# Altium footprint library 60W-PD.PcbLib: 70 footprints (part 3 of 5)
Each footprint in its own frame and in the unit in brackets; x right, y up, seen from the top. Pads: shape width x height; smd on the part's side, far side on the other; paste and mask are expansions set on the pad; w line width, h text height; cw(c..) or ccw(c..) is an arc to the next point about the centre after c.
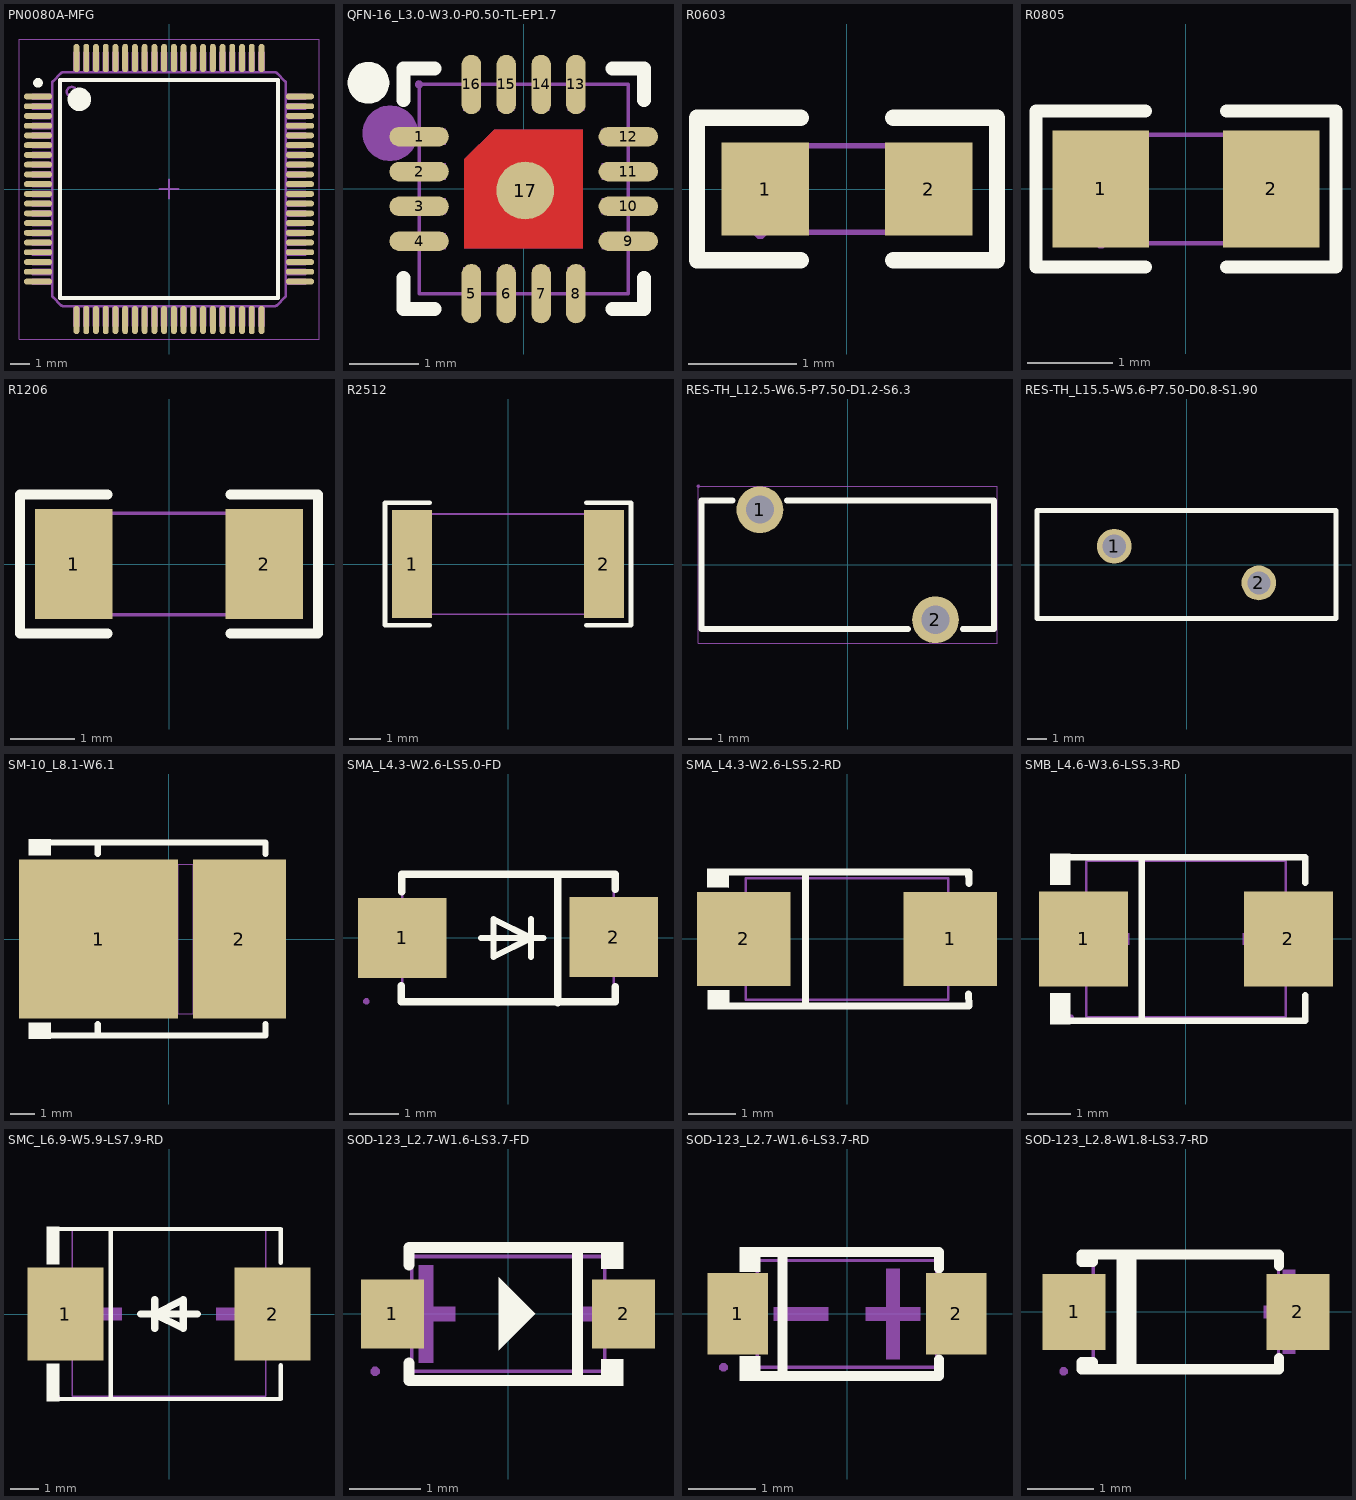
[diagram p2: the footprints below, top view; thin cyan lines are the x and y axes]

## PN0080A-MFG [mm]
pads (80):
  oval 1.45x0.3 smd: 1(-6.725,4.75) 2(-6.725,4.25) 3(-6.725,3.75) 4(-6.725,3.25) 5(-6.725,2.75) 6(-6.725,2.25) 7(-6.725,1.75) 8(-6.725,1.25) 9(-6.725,0.75) 10(-6.725,0.25) 11(-6.725,-0.25) 12(-6.725,-0.75) 13(-6.725,-1.25) 14(-6.725,-1.75) 15(-6.725,-2.25) 16(-6.725,-2.75) 17(-6.725,-3.25) 18(-6.725,-3.75) 19(-6.725,-4.25) 20(-6.725,-4.75) 41(6.725,-4.75) 42(6.725,-4.25) 43(6.725,-3.75) 44(6.725,-3.25) 45(6.725,-2.75) 46(6.725,-2.25) 47(6.725,-1.75) 48(6.725,-1.25) 49(6.725,-0.75) 50(6.725,-0.25) 51(6.725,0.25) 52(6.725,0.75) 53(6.725,1.25) 54(6.725,1.75) 55(6.725,2.25) 56(6.725,2.75) 57(6.725,3.25) 58(6.725,3.75) 59(6.725,4.25) 60(6.725,4.75)
  oval 0.3x1.45 smd: 21(-4.75,-6.725) 22(-4.25,-6.725) 23(-3.75,-6.725) 24(-3.25,-6.725) 25(-2.75,-6.725) 26(-2.25,-6.725) 27(-1.75,-6.725) 28(-1.25,-6.725) 29(-0.75,-6.725) 30(-0.25,-6.725) 31(0.25,-6.725) 32(0.75,-6.725) 33(1.25,-6.725) 34(1.75,-6.725) 35(2.25,-6.725) 36(2.75,-6.725) 37(3.25,-6.725) 38(3.75,-6.725) 39(4.25,-6.725) 40(4.75,-6.725) 61(4.75,6.725) 62(4.25,6.725) 63(3.75,6.725) 64(3.25,6.725) 65(2.75,6.725) 66(2.25,6.725) 67(1.75,6.725) 68(1.25,6.725) 69(0.75,6.725) 70(0.25,6.725) 71(-0.25,6.725) 72(-0.75,6.725) 73(-1.25,6.725) 74(-1.75,6.725) 75(-2.25,6.725) 76(-2.75,6.725) 77(-3.25,6.725) 78(-3.75,6.725) 79(-4.25,6.725) 80(-4.75,6.725)
Top Overlay:
  circle w0.25: c-6.725,5.45 r0.125
  circle w0.6: c-4.6,4.6 r0.3
  lines w0.2: -5.6,-5.6 -5.6,5.6 5.6,5.6 5.6,-5.6 -5.6,-5.6
Mechanical 5:
  drawing of 978 lines, arcs and shapes, not listed
  text ".Designator" at -1.825,-0.5 h1.02
Mechanical 15:
  lines w0.05: -7.7,-7.7 -7.7,7.7 7.7,7.7 7.7,-7.7 -7.7,-7.7
  lines w0.1: -0.5,0 0.5,0 ; 0,-0.5 0,0.5
3D body "IC_TMS320F280025CPNSR_LQFP80.STEP": height 0.25, standoff 0, extent -7.5,-7.5 7.5,7.5

## QFN-16_L3.0-W3.0-P0.50-TL-EP1.7 [mil]
pads (17):
  oval 33.5x11 smd paste-3937 mask+2: 1(-59,29.5) 2(-59,9.8) 3(-59,-9.8) 4(-59,-29.5) 9(59.1,-29.5) 10(59.1,-9.8) 11(59.1,9.8) 12(59.1,29.5)
  oval 11x33.5 smd paste-3937 mask+2: 5(-29.5,-59.1) 6(-9.8,-59.1) 7(9.9,-59.1) 8(29.5,-59.1) 13(29.5,59) 14(9.9,59) 15(-9.8,59) 16(-29.5,59)
  round 32.6 smd: 17(0.9,-0.9)
Top Layer:
  region: 33.5,33.5 33.5,-33.5 -33.5,-33.5 -33.5,16.7 -16.7,33.5
Top Overlay:
  lines w7.9: -67.9,-50.2 -67.9,-67.9 -50.2,-67.9 ; -67.9,50.2 -67.9,67.9 -50.2,67.9 ; 50.2,-67.9 67.9,-67.9 67.9,-50.2 ; 50.2,67.9 67.9,67.9 67.9,50.2
  lines w11.8: -81.7,59.9 -82.1,57.9 -83.1,56.1 -84.7,54.8 -86.6,54.1 -88.6,54.1 -90.6,54.8 -92.1,56.2 -93.1,57.9 -93.5,59.9 -93.1,62 -92.1,63.7 -90.6,65.1 -88.6,65.8 -86.6,65.8 -84.7,65.1 -83.1,63.8 -82.1,62 -81.7,60
Top Paste:
  drawing of 17 lines, arcs and shapes, not listed
Mechanical 2:
  lines w15.7: -83.2,31.4 -82.8,29 -81.7,26.8 -80,25.1 -77.8,23.9 -75.4,23.6 -72.9,23.9 -70.7,25.1 -69,26.8 -67.9,29 -67.5,31.4 -67.9,33.9 -69,36.1 -70.7,37.8 -72.9,38.9 -75.4,39.3 -77.8,38.9 -80,37.8 -81.7,36.1 -82.8,33.9 -83.2,31.4
Mechanical 6:
  lines w2: -59,-59.1 59.1,-59.1 59.1,59 -59,59 -59,-59.1
Mechanical 8:
  region: -56.7,59 -57.1,57.8 -58.1,56.9 -59.4,56.7 -60.6,57.3 -61.3,58.4 -61.3,59.7 -60.6,60.8 -59.4,61.4 -58.1,61.2 -57.1,60.3
Mechanical 9:
  region: -34,59 -25,59 -25,44.1 -34,44.1
  region: -14.4,59 -5.3,59 -5.3,44.1 -14.4,44.1
  region: 5.3,59 14.4,59 14.4,44.1 5.3,44.1
  region: 25,59 34.1,59 34.1,44.1 25,44.1
  region: 59.1,34.1 59.1,25 44.1,25 44.1,34.1
  region: 59.1,14.4 59.1,5.3 44.1,5.3 44.1,14.4
  region: 59.1,-5.3 59.1,-14.4 44.1,-14.4 44.1,-5.3
  region: 59.1,-25 59.1,-34.1 44.1,-34.1 44.1,-25
  region: 25,-44.1 34.1,-44.1 34.1,-59.1 25,-59.1
  region: 5.3,-44.1 14.4,-44.1 14.4,-59.1 5.3,-59.1
  region: -14.4,-44.1 -5.3,-44.1 -5.3,-59.1 -14.4,-59.1
  region: -34,-44.1 -25,-44.1 -25,-59.1 -34,-59.1
  region: -44.1,-25 -44.1,-34.1 -59,-34.1 -59,-25
  region: -44.1,-5.3 -44.1,-14.4 -59,-14.4 -59,-5.3
  region: -44.1,14.4 -44.1,5.3 -59,5.3 -59,14.4
  region: -44.1,34.1 -44.1,25 -59,25 -59,34.1
  region: 33.5,33.5 33.5,-33.5 -33.5,-33.5 -33.5,16.7 -16.7,33.5

## R0603 [mil]
pads (2):
  rect 31.8x34 smd paste-3937 mask+2: 1(-29.6,0) 2(29.7,0)
Top Overlay:
  lines w6: -16.7,-26 -54.5,-26 -54.5,26 -16.7,26 ; 16.8,-26 54.6,-26 54.6,26 16.8,26
Top Paste:
  region: 47.1,17.7 15.6,17.7 13.6,15.8 13.6,6.8 28.2,6.8 28.2,-6.2 13.6,-6.2 13.6,-15.7 15.6,-17.7 47.1,-17.7 49,-15.7 49,15.8
  region: -47,-17.7 -15.5,-17.7 -13.6,-15.7 -13.6,-6.8 -28.1,-6.8 -28.1,6.2 -13.6,6.2 -13.6,15.8 -15.5,17.7 -47,17.7 -49,15.8 -49,-15.7
Mechanical 6:
  lines w2: -31.5,-15.7 -31.5,15.8 31.5,15.8 31.5,-15.7 -31.5,-15.7
Mechanical 8:
  region: -29.1,-15.7 -29.1,-16.69 -30.51,-18.1 -32.49,-18.1 -33.9,-16.69 -33.9,-15.7 -33.9,-14.71 -32.49,-13.3 -30.51,-13.3 -29.1,-14.71 -29.1,-15.7
Mechanical 9:
  region: -31.5,-15.7 -31.5,15.8 -19.7,15.8 -19.7,-15.7
  region: 31.5,-15.7 31.5,15.8 19.7,15.8 19.7,-15.7
3D body "Unnamed-EasyEDA PCB Model~JOUm.step": height 17.72, standoff 0, extent -31.89,-16.09 31.89,15.8

## R0805 [mil]
pads (2):
  rect 44.6x54.2 smd paste-3937 mask+2: 1(-39.3,0) 2(39.4,0)
Top Overlay:
  lines w6: -18.7,-36.1 -69.3,-36.1 -69.3,36.1 -18.7,36.1 ; 18.8,-36.1 69.4,-36.1 69.4,36.1 18.8,36.1
Top Paste:
  region: -66.9,-25.2 -66.9,25.2 -64.9,27.2 -19.6,27.2 -17.7,25.2 -17.5,9.1 -35.2,9.1 -35.2,-8.7 -17.9,-8.7 -17.7,-25.2 -19.6,-27.2 -64.9,-27.2
  region: 17.8,-25.2 17.8,-8.7 35.3,-8.7 35.3,9.1 18,9.1 17.8,25.2 19.7,27.2 65,27.2 67,25.2 67,-25.2 65,-27.2 19.7,-27.2
Mechanical 6:
  lines w2: -39.3,-25.1 -39.3,25.1 39.4,25.1 39.4,-25.1 -39.3,-25.1
Mechanical 8:
  region: -36.9,-25.1 -36.9,-26.09 -38.31,-27.5 -40.29,-27.5 -41.7,-26.09 -41.7,-25.1 -41.7,-24.11 -40.29,-22.7 -38.31,-22.7 -36.9,-24.11 -36.9,-25.1 -37,-25.1
Mechanical 9:
  region: -39.3,-25.1 -39.3,25.1 -23.6,25.1 -23.6,-25.1
  region: 39.4,-25.1 39.4,25.1 23.7,25.1 23.7,-25.1
3D body "Unnamed-EasyEDA PCB Model~HT5s.step": height 24.02, standoff 0, extent -39.32,-26.12 39.42,25.1

## R1206 [mil]
pads (2):
  rect 47.5x67 smd paste-3937 mask+2: 1(-58.2,0) 2(58.2,0)
Top Overlay:
  lines w6: -37.5,-42.5 -91,-42.5 -91,42.5 -37.5,42.5 ; 37.4,-42.5 91,-42.5 91,42.5 37.4,42.5
Top Paste:
  region: 34.4,-29.6 34.4,-15.3 38.4,-11.4 46.7,-11.4 50.6,-7.5 50.6,7.4 46.7,11.4 38.4,11.4 34.4,15.3 34.4,29.5 38.4,33.5 78,33.5 82,29.5 82,-29.6 78,-33.5 38.4,-33.5
  region: -34.5,-29.6 -34.5,-15.3 -38.4,-11.4 -46.7,-11.4 -50.6,-7.5 -50.6,7.4 -46.7,11.4 -38.4,11.4 -34.5,15.3 -34.5,29.5 -38.4,33.5 -78.1,33.5 -82,29.5 -82,-29.6 -78.1,-33.5 -38.4,-33.5
Mechanical 6:
  lines w2: -61,-31 -61,31 61,31 61,-31 -61,-31
Mechanical 8:
  region: -58.6,-31 -58.6,-31.99 -60.01,-33.4 -61.99,-33.4 -63.4,-31.99 -63.4,-31 -63.4,-30.01 -61.99,-28.6 -60.01,-28.6 -58.6,-30.01 -58.6,-31 -58.7,-31
Mechanical 9:
  region: -61,-31 -61,31 -43.3,31 -43.3,-31
  region: 61,-31 61,31 43.3,31 43.3,-31
3D body "R1206.step": height 22.05, standoff 0, extent -57.99,-31.5 67.99,31.54

## R2512 [mil]
pads (2):
  rect 50.5x136.1 smd paste-3937 mask+2: 1(-120.8,0) 2(120.7,0)
Top Overlay:
  lines w6: -98.5,-77 -155,-77 -155,77.1 -98.5,77.1 ; 98.4,-77 154.9,-77 154.9,77.1 98.4,77.1
Top Paste:
  region: 95.4,-64.1 95.4,-27 99.4,-23.1 108.7,-23.1 112.6,-19.2 112.6,19.2 108.7,23.2 99.4,23.2 95.4,27.1 95.4,64.1 99.4,68.1 142,68.1 145.9,64.1 145.9,-64.1 142,-68 99.4,-68
  region: -95.5,-64.1 -95.5,-27 -99.4,-23.1 -108.7,-23.1 -112.7,-19.2 -112.7,19.2 -108.7,23.2 -99.4,23.2 -95.5,27.1 -95.5,64.1 -99.4,68.1 -142.1,68.1 -146,64.1 -146,-64.1 -142.1,-68 -99.4,-68
Mechanical 6:
  lines w2: -124.1,-63 -124.1,63 124,63 124,-63 -124.1,-63
Mechanical 8:
  region: -122.6,-63 -122.6,-63.99 -124.01,-65.4 -125.99,-65.4 -127.4,-63.99 -127.4,-63 -127.4,-62.01 -125.99,-60.6 -124.01,-60.6 -122.6,-62.01 -122.6,-63 -122.7,-63
Mechanical 9:
  region: -124.1,-63 -124.1,63 -100.4,63 -100.4,-63
  region: 100.4,-63 100.4,63 124,63 124,-63
3D body "Unnamed-EasyEDA PCB Model~EiZo.step": height 24.06, standoff 0, extent -124.07,-62.98 123.97,63

## RES-TH_L12.5-W6.5-P7.50-D1.2-S6.3 [mil]
pads (2):
  round 78.7 hole 47.2: 1(-147.6,92.5) 2(147.6,-92.5)
Top Overlay:
  lines w10: -193.4,108.3 -246,108.3 -246,-108.3 101.8,-108.3 ; -101.7,108.3 246.1,108.3 246.1,-108.3 193.5,-108.3
Mechanical 6:
  lines w2: -251,-131.9 -251,131.9 251.1,131.9 251.1,-131.9 -251,-131.9
Mechanical 8:
  region: -248.6,131.9 -248.6,130.91 -250.01,129.5 -251.99,129.5 -253.4,130.91 -253.4,131.9 -253.4,132.89 -251.99,134.3 -250.01,134.3 -248.6,132.89 -248.6,131.9 -248.7,131.9
Mechanical 9:
  region: 167.3,-92.5 167.3,-96.42 164.3,-103.66 158.76,-109.2 151.52,-112.2 143.68,-112.2 136.44,-109.2 130.9,-103.66 127.9,-96.42 127.9,-92.5 127.9,-88.58 130.9,-81.34 136.44,-75.8 143.68,-72.8 151.52,-72.8 158.76,-75.8 164.3,-81.34 167.3,-88.58 167.3,-92.5
  region: -127.9,92.5 -127.9,88.58 -130.9,81.34 -136.44,75.8 -143.68,72.8 -151.52,72.8 -158.76,75.8 -164.3,81.34 -167.3,88.58 -167.3,92.5 -167.3,96.42 -164.3,103.66 -158.76,109.2 -151.52,112.2 -143.68,112.2 -136.44,109.2 -130.9,103.66 -127.9,96.42 -127.9,92.5
3D body "Unnamed-EasyEDA PCB Model~kx1m.step": height 604.33, standoff -192.91, extent -225.92,-136.37 266.21,136.37

## RES-TH_L15.5-W5.6-P7.50-D0.8-S1.90 [mil]
pads (2):
  round 70.9 hole 47.2 paste-99999 mask+2: 1(-147.7,37.4) 2(147.6,-37.4)
Top Overlay:
  lines w10: -305.1,-110.2 305.1,-110.2 305.1,110.3 -305.1,110.3 -305.1,-110.2
Mechanical 7:
  lines w2: -305.1,-110.2 -305.1,110.3 305.1,110.3 305.1,-110.2 -305.1,-110.2
Mechanical 8:
  region: -302.7,110.3 -302.7,109.31 -304.11,107.9 -306.09,107.9 -307.5,109.31 -307.5,110.3 -307.5,111.29 -306.09,112.7 -304.11,112.7 -302.7,111.29 -302.7,110.3 -302.8,110.3
Mechanical 9:
  region: 163.3,-37.4 163.3,-40.52 160.91,-46.29 156.49,-50.71 150.72,-53.1 144.48,-53.1 138.71,-50.71 134.29,-46.29 131.9,-40.52 131.9,-37.4 131.9,-34.28 134.29,-28.51 138.71,-24.09 144.48,-21.7 150.72,-21.7 156.49,-24.09 160.91,-28.51 163.3,-34.28 163.3,-37.4 163.4,-37.4
  region: -132,37.4 -132,34.28 -134.39,28.51 -138.81,24.09 -144.58,21.7 -150.82,21.7 -156.59,24.09 -161.01,28.51 -163.4,34.28 -163.4,37.4 -163.4,40.52 -161.01,46.29 -156.59,50.71 -150.82,53.1 -144.58,53.1 -138.81,50.71 -134.39,46.29 -132,40.52 -132,37.4 -131.9,37.4
3D body "Unnamed-EasyEDA PCB Model~ZtqE.step": height 732.28, standoff -163.38, extent -305.11,-110.06 305.11,110.06

## SM-10_L8.1-W6.1 [mil]
pads (2):
  rect 255.9x255.9 smd: 1(-113.1,0)
  rect 149.6x255.9 smd: 2(113.2,0)
Top Overlay:
  region: -225,160 -190,160 -190,135 -225,135 -225,140
  region: -225,-135 -190,-135 -190,-160 -225,-160 -225,-155
  lines w10: -220,-155 155,-155 155,-137.1 ; -220,155 155,155 155,137.1 ; -115,155 -114.6,155 -114.6,137.1 ; -114.6,-155 -114.6,-137.1
Mechanical 2:
  region: -170,15 -70,15 -70,-5 -170,-5 -170,5
  region: 65,10 165,10 165,-10 65,-10 65,0
  region: 105,-50 105,50 125,50 125,-50 115,-50
Mechanical 6:
  lines w2: -170.2,-120.1 -170.2,120.1 148.7,120.1 148.7,-120.1 -170.2,-120.1
Mechanical 8:
  region: -167.8,-120.1 -167.8,-121.09 -169.21,-122.5 -171.19,-122.5 -172.6,-121.09 -172.6,-120.1 -172.6,-119.11 -171.19,-117.7 -169.21,-117.7 -167.8,-119.11
Mechanical 9:
  region: -170.2,-120.1 -170.2,120.1 14.8,120.1 14.8,-120.1
  region: 38.4,120.1 148.7,120.1 148.7,-120.1 38.4,-120.1
3D body "Unnamed-EasyEDA PCB Model~gzDT.step": height 53.23, standoff 0, extent -180.12,-115.12 138.86,125.12

## SMA_L4.3-W2.6-LS5.0-FD [mil]
pads (2):
  rect 70.9x63.8 smd: 1(-84.7,-0.3) 2(84.6,0.4)
Top Overlay:
  lines w5: -21.7,-0.4 28.3,-0.4 ; 18.3,-15.4 18.3,-0.4 ; 18.3,14.6 18.3,-0.4 ; 18.3,-0.4 -11.7,-15.4 -11.7,-0.4 -11.7,14.6 18.3,-0.4
  lines w6: -85.5,-38.5 -85.5,-51.5 85.7,-51.5 85.7,-39.2 ; -85.1,36.7 -85.1,50.8 86,50.8 86,38.5 ; 39.6,-52 39.6,50.3
Mechanical 2:
  region: -84.4,25.4 -84.4,-25.3 -76.8,-25.3 -76.8,25.4
  region: -95.8,3.8 -95.8,-3.8 -65.4,-3.8 -65.4,3.8
  region: 95.7,3.8 95.7,-3.8 65.3,-3.8 65.3,3.8
Mechanical 6:
  lines w2: -84.7,-51.1 -84.7,51.2 84.6,51.2 84.6,-51.1 -84.7,-51.1
Mechanical 8:
  region: -111,-51.1 -111,-52.09 -112.41,-53.5 -114.39,-53.5 -115.8,-52.09 -115.8,-51.1 -115.8,-50.11 -114.39,-48.7 -112.41,-48.7 -111,-50.11
Mechanical 9:
  region: 98.4,29 98.4,-28.1 53.1,-28.1 53.1,29
  region: -98.4,-28.9 -98.4,28.2 -53.2,28.2 -53.2,-28.9
3D body "Unnamed-EasyEDA PCB Model~mERm.step": height 82.68, standoff 0, extent -100.91,-52.17 97.51,51.37

## SMA_L4.3-W2.6-LS5.2-RD [mil]
pads (2):
  rect 78.7x78.7 smd: 1(86.6,0) 2(-86.6,0)
Top Overlay:
  region: -99.2,59.1 -99.3,43.1 -117.4,43.3 -117.2,59.1
  region: -98.9,-43.2 -99,-59.2 -117.1,-59 -116.9,-43.2
  lines w6: -102.2,-56.2 102.2,-56.2 ; -102.2,56.1 102.2,56.1 102.5,46.7 ; -34.8,-56.2 -34.8,56.1 ; 102.1,-46.3 102.3,-55.7
Mechanical 2:
  region: -91.3,-4 -91.3,3.9 -59.4,3.9 -59.4,-4
  region: 90.1,-3.6 90.1,4.4 58.2,4.4 58.2,-3.6
  region: 79.3,-26.6 79.3,26.5 71.3,26.5 71.3,-26.6
Mechanical 6:
  lines w2: -85.1,-51.2 -85.1,51.1 85,51.1 85,-51.2 -85.1,-51.2
Mechanical 8:
  region: -100.2,-51.2 -100.6,-52.5 -101.6,-53.4 -102.9,-53.6 -104.1,-53 -104.8,-51.9 -104.8,-50.6 -104.1,-49.4 -102.9,-48.9 -101.6,-49.1 -100.6,-49.9
Mechanical 9:
  region: 102.5,28.5 102.5,-28.6 58.3,-28.6 58.3,28.5
  region: -58.3,28.5 -58.3,-28.6 -102.6,-28.6 -102.6,28.5

## SMB_L4.6-W3.6-LS5.3-RD [mil]
pads (2):
  rect 80.6x86.3 smd: 1(-92.9,0) 2(93,0)
Top Overlay:
  region: -105,77.2 -105,49.1 -123,49.1 -123,77.2
  region: -105,-77.3 -105,-49.2 -123,-49.2 -123,-77.3
  lines w6: -108,-74.3 108.1,-74.3 108.1,-51.2 ; -108,74.2 108.1,74.2 108.1,51.1 ; -40,-74.3 -40,74.2
Mechanical 2:
  region: -94.3,-5.4 -94.3,5.3 -51.5,5.3 -51.5,-5.4
  region: 94.4,-5.4 94.4,5.3 51.6,5.3 51.6,-5.4
  region: 78.3,-35.7 78.3,35.6 67.7,35.6 67.7,-35.7
Mechanical 6:
  lines w2: -90.5,-70.9 -90.5,70.8 90.6,70.8 90.6,-70.9 -90.5,-70.9
Mechanical 8:
  region: -101.9,-70.9 -102.3,-72.2 -103.3,-73.1 -104.6,-73.2 -105.8,-72.7 -106.5,-71.6 -106.5,-70.2 -105.8,-69.1 -104.6,-68.6 -103.3,-68.8 -102.3,-69.6
Mechanical 9:
  region: -104.3,-40 -104.3,39.9 -59.4,39.9 -59.4,-40
  region: 104.4,-40 104.4,39.9 59.5,39.9 59.5,-40

## SMC_L6.9-W5.9-LS7.9-RD [mil]
pads (2):
  rect 106.3x129.9 smd: 1(-145.2,0) 2(145.1,0)
Top Overlay:
  region: -153.6,122.2 -153.6,69.8 -171.6,69.8 -171.6,122.2
  region: -153.6,-122.1 -153.6,-69.7 -171.6,-69.7 -171.6,-122.1
  lines w6: -156.6,-119.1 156.5,-119.1 156.5,-71.7 ; -156.6,119.2 156.5,119.2 156.5,71.8 ; -81.5,-119.1 -81.5,119.2
  lines w10: -40,0 40,0 ; -20,20 -20,-20 -20,0 ; -20,0 20,-20 20,20 -20,0
Mechanical 2:
  region: -136.1,-8.7 -136.1,8.8 -66.5,8.8 -66.5,-8.7
  region: 136.1,-8.7 136.1,8.8 66.4,8.8 66.4,-8.7
  region: 110,-58 110,58.1 92.5,58.1 92.5,-58
Mechanical 6:
  lines w2: -135.8,-115 -135.8,117.3 135.8,117.3 135.8,-115 -135.8,-115
Mechanical 8:
  region: -153.1,-116.1 -153.1,-117.09 -154.51,-118.5 -156.49,-118.5 -157.9,-117.09 -157.9,-116.1 -157.9,-115.11 -156.49,-113.7 -154.51,-113.7 -153.1,-115.11 -153.1,-116.1 -153.2,-116.1
Mechanical 9:
  region: -155.5,-59 -155.5,59.1 -106.3,59.1 -106.3,-59
  region: 155.5,-59 155.5,59.1 106.3,59.1 106.3,-59
3D body "Unnamed-EasyEDA PCB Model~1jsX.step": height 82.68, standoff 0, extent -157.53,-117.02 157.43,119.2

## SOD-123_L2.7-W1.6-LS3.7-FD [mil]
pads (2):
  rect 34.6x37.8 smd: 1(-63.4,0) 2(63.4,0)
Top Overlay:
  region: 15,0 -5,20 -5,-20
  region: 51.2,39.4 51.2,24.9 63.2,24.9 63.2,39.4
  region: 51.2,-39.5 51.2,-24.9 63.2,-24.9 63.2,-39.5
  lines w6: -54.2,-26.9 -54.2,-36.5 54.2,-36.5 ; -54.2,26.9 -54.2,36.4 54.2,36.4 ; 38.1,-36.5 38.1,36.4
Mechanical 2:
  region: -49,-26.8 -49,26.7 -41,26.7 -41,-26.8
  region: -61.1,-4 -61.1,4 -28.9,4 -28.9,-4
  region: 71.1,-4 71.1,4 39,4 38.9,-4
Mechanical 6:
  lines w2: -52.9,-31.5 -52.9,31.5 53,31.5 53,-31.5 -52.9,-31.5
Mechanical 7:
  region: -59.5,11.8 -59.5,-11.8 -52.7,-11.8 -52.7,11.8
  region: 59.5,-11.8 59.5,11.8 52.8,11.8 52.8,-11.8
Mechanical 8:
  region: -70.5,-31.5 -70.5,-32.49 -71.91,-33.9 -73.89,-33.9 -75.3,-32.49 -75.3,-31.5 -75.3,-30.51 -73.89,-29.1 -71.91,-29.1 -70.5,-30.51 -70.5,-31.5
Mechanical 9:
  region: -72.9,11.8 -59.1,11.8 -59.1,-11.8 -72.9,-11.8
  region: 72.9,-11.8 59.1,-11.8 59.1,11.8 72.9,11.8
3D body "Unnamed-EasyEDA PCB Model~MswC.step": height 46.26, standoff 0, extent -72.78,-29.56 72.88,31.5

## SOD-123_L2.7-W1.6-LS3.7-RD [mil]
pads (2):
  rect 35.8x48 smd: 1(-64.4,0) 2(64.4,0)
Top Overlay:
  region: -51.2,39.4 -51.2,24.9 -63.2,24.9 -63.2,39.4
  region: -51.2,-39.5 -51.2,-24.9 -63.2,-24.9 -63.2,-39.5
  lines w6: -54.2,-36.5 54.2,-36.5 54.2,-26.9 ; -54.2,36.4 54.2,36.4 54.2,26.9 ; -38.1,-36.5 -38.1,36.4
Mechanical 2:
  region: -43.2,4 -43.2,-4.1 -11,-4.1 -11,4
  region: 43.1,4 43.1,-4.1 11,-4.1 11,4
  region: 31.1,26.7 31.1,-26.8 23.1,-26.8 23.1,26.7
Mechanical 6:
  lines w2: -53,-31.5 -53,31.5 52.9,31.5 52.9,-31.5 -53,-31.5
Mechanical 7:
  region: 71.2,11.8 52.3,11.8 52.3,-11.8 71.2,-11.8
  region: -71.3,-11.8 -52.4,-11.8 -52.4,11.8 -71.3,11.8
Mechanical 8:
  region: -70.4,-31.5 -70.4,-32.49 -71.81,-33.9 -73.79,-33.9 -75.2,-32.49 -75.2,-31.5 -75.2,-30.51 -73.79,-29.1 -71.81,-29.1 -70.4,-30.51
Mechanical 9:
  region: -72.7,11.8 -62.8,11.8 -62.8,-11.8 -72.7,-11.8
  region: 62.8,11.8 72.6,11.8 72.6,-11.8 62.8,-11.8
3D body "Unnamed-EasyEDA PCB Model~YKIY.step": height 50.16, standoff -1.02, extent -72.84,-31.5 72.83,31.5

## SOD-123_L2.8-W1.8-LS3.7-RD [mil]
pads (2):
  rect 37.4x45.3 smd: 1(-66.6,0) 2(66.7,0)
Top Overlay:
  lines w6: -38.2,-34.1 -38.2,34.1 ; -32.5,-34.1 -32.5,34.1 ; 55.4,-27.5 55.4,-34.1 -55.3,-34.1 ; 55.4,27.5 55.4,34.1 -55.3,34.1 ; -55.3,-34.1 -55.3,-29.7 -62.2,-29.7 -62.2,-34.1 -55.3,-34.1 ; -55.3,34.1 -55.3,29.7 -62.2,29.7 -62.2,34.1 -55.3,34.1
Mechanical 2:
  region: 65,25 65,-24.8 57.6,-24.8 57.6,25
  region: 76.2,3.8 76.2,-3.6 46.4,-3.6 46.4,3.8
  region: -79.9,3.7 -79.9,-3.7 -50,-3.7 -50,3.7
Mechanical 6:
  lines w2: -55.1,-35.4 55.1,-35.4 55.1,35.4 -55.1,35.4 -55.1,-35.4
Mechanical 8:
  region: -70.4,-35.4 -70.4,-36.39 -71.81,-37.8 -73.79,-37.8 -75.2,-36.39 -75.2,-35.4 -75.2,-34.41 -73.79,-33 -71.81,-33 -70.4,-34.41 -70.4,-35.4 -70.5,-35.4
Mechanical 9:
  region: 72.9,-18.3 72.9,18.3 51.2,18.3 51.2,-18.3
  region: -72.8,-18.3 -72.8,18.3 -51.2,18.3 -51.2,-18.3
3D body "Unnamed-EasyEDA PCB Model~dJI5.step": height 48.03, standoff 0, extent -72.39,-28.89 72.49,34.1